# EAGLE library part 8SEG4 (library lolomolo)
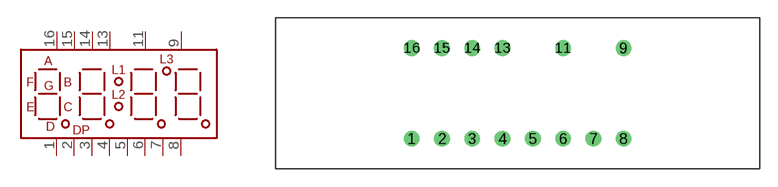
[diagram p21: symbol with the pads of 8SEG4; footprint 8SEG4]

Designator prefix IC

## 8SEG4  [8SEG4]
1  1
2  2
3  3
4  4
5  5
6  6
7  7
8  8
9  9
11  11
13  13
14  14
15  15
16  16

## Footprint 8SEG4 (pad centres in mm)
drill 0.813: 1 11.43,2.54; 2 13.97,2.54; 3 16.51,2.54; 4 19.05,2.54; 5 21.59,2.54; 6 24.13,2.54; 7 26.67,2.54; 8 29.21,2.54; 9 29.21,10.16; 11 24.13,10.16; 13 19.05,10.16; 14 16.51,10.16; 15 13.97,10.16; 16 11.43,10.16